# Altium schematic symbol library LED_1206_BLUE.SchLib: 1 symbol
Pins are listed as number, name and electrical type; pins without a type are passive.

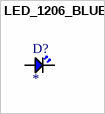
[diagram p0: symbol LED_1206_BLUE]

## LED_1206_BLUE
designator D?
20mA 264mcd Colorless Transparent Lens Positive Stick 460nm~475nm Blue 120° 70mW 3.4V 1206 LED Indication - Discrete ROHS; Manufacturer: XINGLIGHT; Manufacturer Part: XL-3216UBC; Forward Current: 20mA; Forward Voltage: 3.4V; ComponentLink1Description: Datasheet; ComponentLink1URL: https://www.lcsc.com/datasheet/lcsc_datasheet_2504101957_XINGLIGHT-XL-3216UBC_C965827.pdf
footprint LED_1206_BLUE
pins: 1, 2